# Altium footprint library SI4463.PcbLib: 2 footprints
Each footprint in its own frame and in the unit in brackets; x right, y up, seen from the top. Pads: shape width x height; smd on the part's side, far side on the other; paste and mask are expansions set on the pad; w line width, h text height; cw(c..) or ccw(c..) is an arc to the next point about the centre after c.
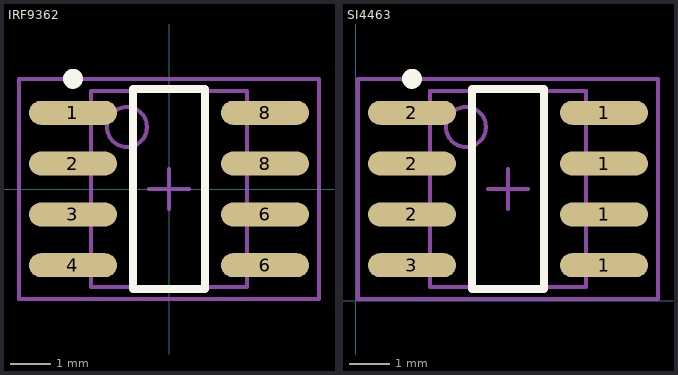
[diagram p0: the footprints below, top view; thin cyan lines are the x and y axes]

## IRF9362 [mm]
pads (8):
  oval 2.2x0.6 smd: 1(-2.4,1.905) 2(-2.4,0.635) 3(-2.4,-0.635) 4(-2.4,-1.905) 6(2.4,-1.905) 6(2.4,-0.635) 8(2.4,0.635) 8(2.4,1.905)
Top Overlay:
  circle w0.25: c-2.4,2.755 r0.125
  lines w0.2: -0.9,-2.5 -0.9,2.5 0.9,2.5 0.9,-2.5 -0.9,-2.5
Mechanical 13:
  circle w0.1: c-1.05,1.55 r0.5
  lines w0.1: -1.95,-2.45 -1.95,2.45 1.95,2.45 1.95,-2.45 -1.95,-2.45
Mechanical 15:
  lines w0.1: -0.5,0 0.5,0 ; 0,-0.5 0,0.5 ; -3.75,-2.75 -3.75,2.75 3.75,2.75 3.75,-2.75 -3.75,-2.75
3D body: height 1.75, standoff 0, extent -1.95,-2.45 1.95,2.45

## SI4463 [mm]
pads (8):
  oval 2.2x0.6 smd: 1(6.21,0.889) 1(6.21,2.159) 1(6.21,3.429) 1(6.21,4.699) 2(1.41,2.159) 2(1.41,3.429) 2(1.41,4.699) 3(1.41,0.889)
Top Overlay:
  circle w0.25: c1.41,5.549 r0.125
  lines w0.2: 2.91,0.294 4.71,0.294 4.71,5.294 2.91,5.294 2.91,0.294
Mechanical 13:
  circle w0.1: c2.76,4.344 r0.5
  lines w0.1: 1.86,0.344 5.76,0.344 5.76,5.244 1.86,5.244 1.86,0.344
Mechanical 15:
  lines w0.1: 3.31,2.794 4.31,2.794 ; 3.81,2.294 3.81,3.294 ; 0.06,0.044 7.56,0.044 7.56,5.544 0.06,5.544 0.06,0.044
3D body: height 1.75, standoff 0, extent 1.86,0.344 5.76,5.244